# Altium footprint library ERN.PcbLib: 34 footprints (part 2 of 3)
Each footprint in its own frame and in the unit in brackets; x right, y up, seen from the top. Pads: shape width x height; smd on the part's side, far side on the other; paste and mask are expansions set on the pad; w line width, h text height; cw(c..) or ccw(c..) is an arc to the next point about the centre after c.
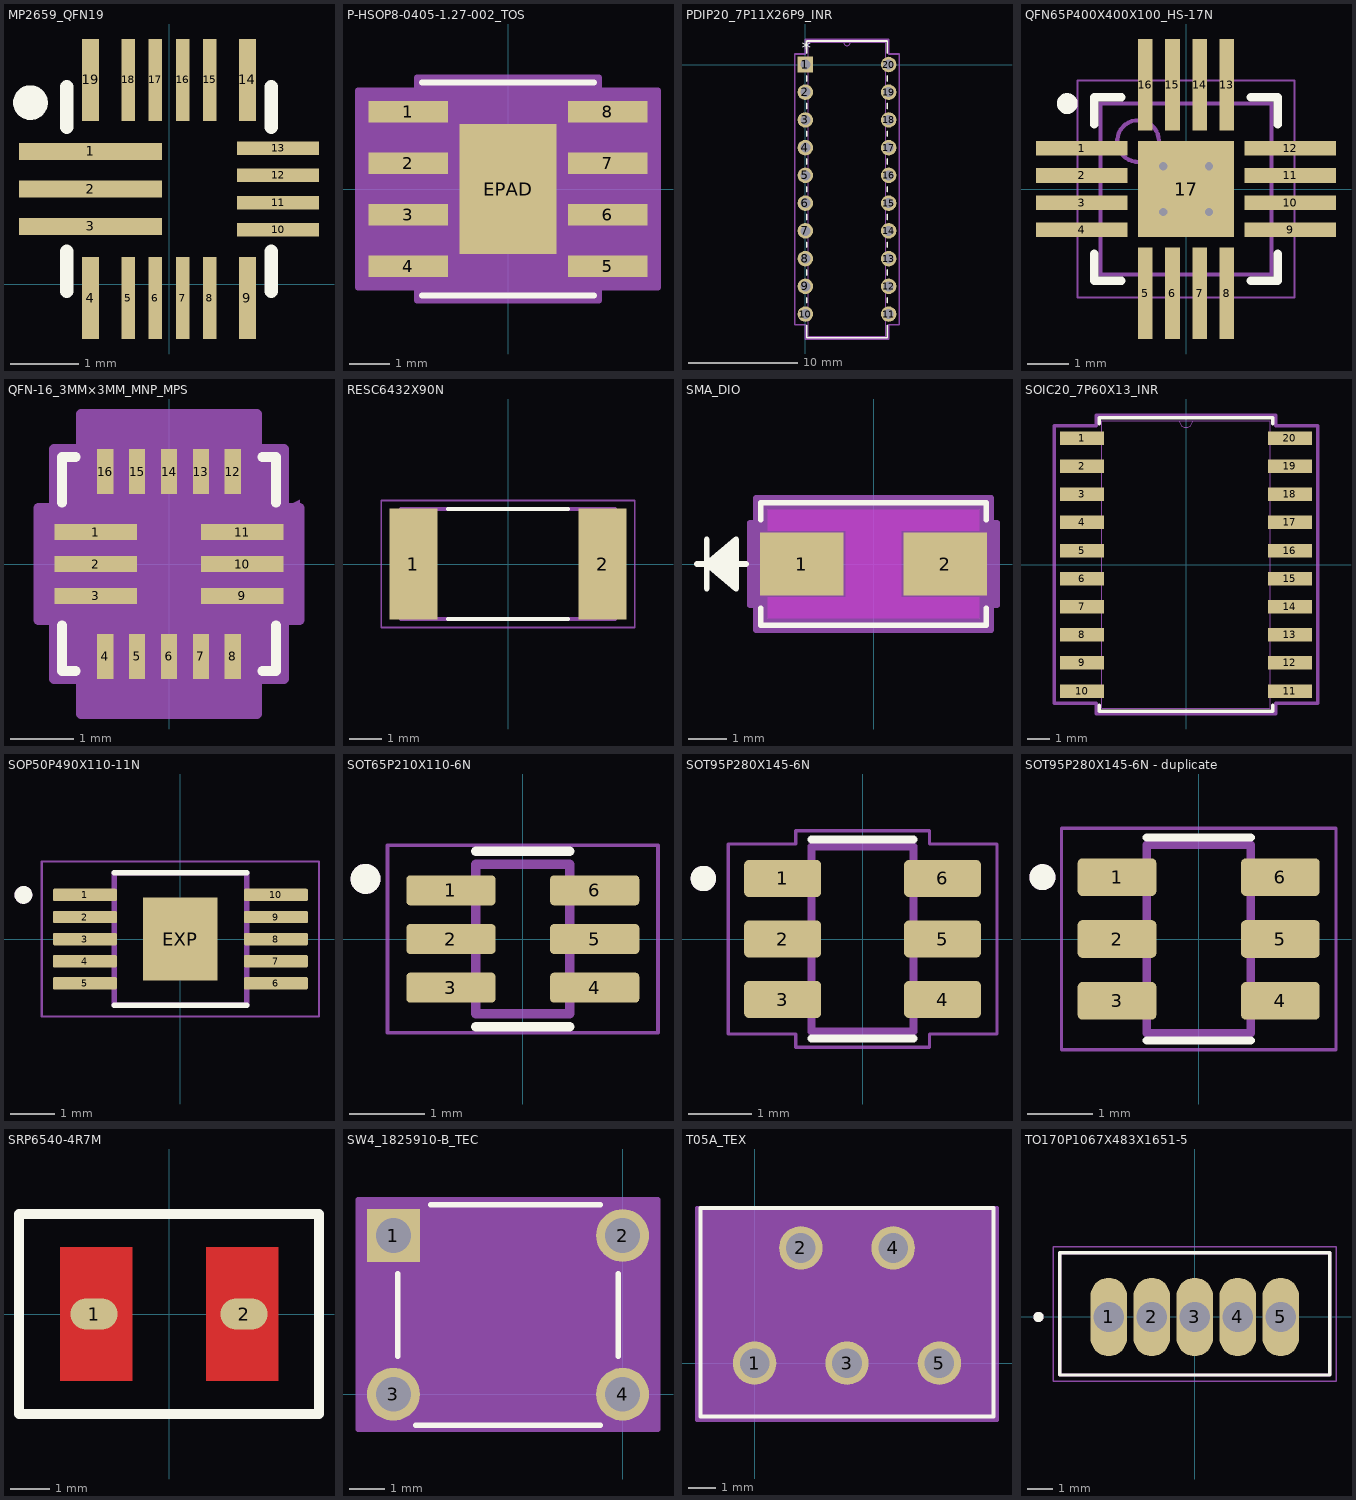
[diagram p1: the footprints below, top view; thin cyan lines are the x and y axes]

## MP2659_QFN19 [mm] "QFN-19 Package for MP2659"
pads (19):
  rect 2.1x0.25 smd mask+0.05: 1(-1.15,1.95) 2(-1.15,1.4) 3(-1.15,0.85)
  rect 0.25x1.2 smd mask+0.05: 4(-1.15,-0.2) 9(1.15,-0.2) 14(1.15,3) 19(-1.15,3)
  rect 0.2x1.2 smd mask+0.05: 5(-0.6,-0.2) 6(-0.2,-0.2) 7(0.2,-0.2) 8(0.6,-0.2) 15(0.6,3) 16(0.2,3) 17(-0.2,3) 18(-0.6,3)
  rect 1.2x0.2 smd mask+0.05: 10(1.6,0.8) 11(1.6,1.2) 12(1.6,1.6) 13(1.6,2)
Top Overlay:
  circle w0.254: c-2.032,2.667 r0.127
  lines w0.2: -1.5,-0.1 -1.5,0.484 ; -1.5,2.31 -1.5,2.9 ; 1.5,-0.1 1.5,0.484 ; 1.5,2.31 1.5,2.9

## P-HSOP8-0405-1.27-002_TOS [mil]
pads (9):
  rect 77.56x20.97 smd paste+0 mask+0: 1(-97,75) 2(-97,25) 3(-97,-25) 4(-97,-75) 5(97,-75) 6(97,-25) 7(97,25) 8(97,75)
  rect 94x126 smd paste-62.5 mask+0: EPAD(0,0)
Top Overlay:
  lines w6: -83.5,-103.5 83.5,-103.5 ; -83.5,103.5 83.5,103.5
Top Paste:
  region: 43.06,59.06 -43.06,59.06 -43.06,3.94 43.06,3.94
  region: 43.06,-3.94 -43.06,-3.94 -43.06,-59.06 43.06,-59.06
Mechanical 13:
  lines w0: -12,98.5 ccw(c0,98.5) 12,98.5
  lines w1: -122,-84.5 -122,-65.5 -78.5,-65.5 -78.5,-84.5 -122,-84.5 ; -122,-34.5 -122,-15.5 -78.5,-15.5 -78.5,-34.5 -122,-34.5 ; -122,15.5 -122,34.5 -78.5,34.5 -78.5,15.5 -122,15.5 ; -122,65.5 -122,84.5 -78.5,84.5 -78.5,65.5 -122,65.5 ; -78.5,-98.5 78.5,-98.5 78.5,98.5 -78.5,98.5 -78.5,-98.5 ; 78.5,-84.5 78.5,-65.5 122,-65.5 122,-84.5 78.5,-84.5 ; 78.5,-34.5 78.5,-15.5 122,-15.5 122,-34.5 78.5,-34.5 ; 78.5,15.5 78.5,34.5 122,34.5 122,15.5 78.5,15.5 ; 78.5,65.5 78.5,84.5 122,84.5 122,65.5 78.5,65.5
  text "*" at -76,45.5 h50
Mechanical 15:
  region: -88.5,-95.48 -145.78,-95.48 -145.78,95.48 -88.5,95.48 -88.5,108.5 88.5,108.5 88.5,95.48 145.78,95.48 145.78,-95.48 88.5,-95.48 88.5,-108.5 -88.5,-108.5
  lines w6: -145.78,-95.48 -145.78,95.48 -88.5,95.48 -88.5,108.5 88.5,108.5 88.5,95.48 145.78,95.48 145.78,-95.48 88.5,-95.48 88.5,-108.5 -88.5,-108.5 -88.5,-95.48 -145.78,-95.48
3D body "P-HSOP8-0405-127-002_TOS.step": height 67.09, standoff 0, extent -122.01,-98.5 122.01,98.5

## PDIP20_7P11X26P9_INR [mil]
pads (20):
  rect 56x56 hole 36 paste-99999 mask+0: 1(0,0)
  round 56 hole 36 paste-99999 mask+0: 2(0,-100) 3(0,-200) 4(0,-300) 5(0,-400) 6(0,-500) 7(0,-600) 8(0,-700) 9(0,-800) 10(0,-900) 11(300,-900) 12(300,-800) 13(300,-700) 14(300,-600) 15(300,-500) 16(300,-400) 17(300,-300) 18(300,-200) 19(300,-100) 20(300,0)
Top Overlay:
  lines w6: 5,-940.79 5,-985 295,-985 295,-940.79 ; 5,-859.21 5,-840.79 ; 5,-759.21 5,-740.79 ; 5,-659.21 5,-640.79 ; 5,-559.21 5,-540.79 ; 5,-459.21 5,-440.79 ; 5,-359.21 5,-340.79 ; 5,-259.21 5,-240.79 ; 5,-159.21 5,-140.79 ; 5,-59.21 5,-41.1 ; 5,41.1 5,85 295,85 295,40.79 ; 295,-859.21 295,-840.79 ; 295,-759.21 295,-740.79 ; 295,-659.21 295,-640.79 ; 295,-559.21 295,-540.79 ; 295,-459.21 295,-440.79 ; 295,-359.21 295,-340.79 ; 295,-259.21 295,-240.79 ; 295,-159.21 295,-140.79 ; 295,-59.21 295,-40.79
  text "*" at -12.5,33 h50
  text ".Designator" at 12.5,-475 h50
Mechanical 13:
  lines w1: 138,80 ccw(c150,80) 162,80 ; -18,-918 -18,-882 10,-882 10,-918 -18,-918 ; -18,-818 -18,-782 10,-782 10,-818 -18,-818 ; -18,-718 -18,-682 10,-682 10,-718 -18,-718 ; -18,-618 -18,-582 10,-582 10,-618 -18,-618 ; -18,-518 -18,-482 10,-482 10,-518 -18,-518 ; -18,-418 -18,-382 10,-382 10,-418 -18,-418 ; -18,-318 -18,-282 10,-282 10,-318 -18,-318 ; -18,-218 -18,-182 10,-182 10,-218 -18,-218 ; -18,-118 -18,-82 10,-82 10,-118 -18,-118 ; -18,-18 -18,18 10,18 10,-18 -18,-18 ; 10,-980 290,-980 290,80 10,80 10,-980 ; 290,-918 290,-882 318,-882 318,-918 290,-918 ; 290,-818 290,-782 318,-782 318,-818 290,-818 ; 290,-718 290,-682 318,-682 318,-718 290,-718 ; 290,-618 290,-582 318,-582 318,-618 290,-618 ; 290,-518 290,-482 318,-482 318,-518 290,-518 ; 290,-418 290,-382 318,-382 318,-418 290,-418 ; 290,-318 290,-282 318,-282 318,-318 290,-318 ; 290,-218 290,-182 318,-182 318,-218 290,-218 ; 290,-118 290,-82 318,-82 318,-118 290,-118 ; 290,-18 290,18 318,18 318,-18 290,-18
  text ".Designator" at 12.5,-475 h50
  text "*" at 7.5,-25 h50
Mechanical 15:
  lines w6: -38,-938 -38,38 0,38 0,90 300,90 300,38 338,38 338,-938 300,-938 300,-990 0,-990 0,-938 -38,-938
3D body "PDIP20_7P11X26P9_INR.step": height 217.09, standoff -100, extent -7.01,-980 320.98,80

## QFN65P400X400X100_HS-17N [mm] "QFN, 16-Leads, Body 4.00x4.00mm, Pitch 0.65mm, Thermal Pad 2.30x2.30mm, IPC Medium Density"
height 1
pads (17):
  rect 2.2x0.35 smd: 1(-2.5,0.975) 2(-2.5,0.325) 3(-2.5,-0.325) 4(-2.5,-0.975) 9(2.5,-0.975) 10(2.5,-0.325) 11(2.5,0.325) 12(2.5,0.975)
  rect 0.35x2.2 smd: 5(-0.975,-2.5) 6(-0.325,-2.5) 7(0.325,-2.5) 8(0.975,-2.5) 13(0.975,2.5) 14(0.325,2.5) 15(-0.325,2.5) 16(-0.975,2.5)
  rect 2.3x2.3 smd: 17(0,0)
via -0.55,0.55 diameter 0.5 hole 0.2
via 0.55,0.55 diameter 0.5 hole 0.2
via -0.55,-0.55 diameter 0.5 hole 0.2
via 0.55,-0.55 diameter 0.5 hole 0.2
Top Overlay:
  circle w0.25: c-2.85,2.05 r0.125
  lines w0.2: -2.2,-1.55 -2.2,-2.2 -1.55,-2.2 ; -2.2,1.55 -2.2,2.2 -1.55,2.2 ; 1.55,-2.2 2.2,-2.2 2.2,-1.55 ; 1.55,2.2 2.2,2.2 2.2,1.55
Mechanical 13:
  circle w0.1: c-1.15,1.15 r0.5
  lines w0.1: -2.05,-2.05 -2.05,2.05 2.05,2.05 2.05,-2.05 -2.05,-2.05
Mechanical 15:
  lines w0.05: -2.6,-2.6 -2.6,2.6 2.6,2.6 2.6,-2.6 -2.6,-2.6
  lines w0.1: -0.5,0 0.5,0 ; 0,-0.5 0,0.5
3D body "QFN65P400X400X100_HS-17N.step": height 1, standoff 0, extent -2.051,-2.051 2.051,2.051

## QFN-16_3MM×3MM_MNP_MPS [mil]
pads (16):
  rect 51x10 smd paste+0 mask+0: 1(-45.28,19.69) 2(-45.28,0) 3(-45.28,-19.69) 9(45.28,-19.69) 10(45.28,0) 11(45.28,19.69)
  rect 10x28 smd paste+0 mask+0: 4(-39.38,-57.09) 5(-19.69,-57.09) 6(0,-57.09) 7(19.69,-57.09) 8(39.38,-57.09) 12(39.38,57.09) 13(19.69,57.09) 14(0,57.09) 15(-19.69,57.09) 16(-39.38,57.09)
Top Overlay:
  lines w6: -66,-37.79 -66,-66 -57.48,-66 ; -66,37.79 -66,66 -57.48,66 ; 57.48,-66 66,-66 66,-37.79 ; 57.48,66 66,66 66,37.79
Mechanical 13:
  lines w1: -61,11 -11,61 ; -61,-61 -61,61 61,61 61,-61 -61,-61
  text "*" at -7.28,-5.31 h50
Mechanical 15:
  region: -54.38,-71 -71,-71 -71,-34.69 -80.78,-34.69 -80.78,34.69 -71,34.69 -71,71 -54.38,71 -54.38,92.59 54.38,92.59 54.38,71 71,71 71,34.69 80.78,39.69 80.78,-34.69 71,-34.69 71,-71 54.38,-71 54.38,-92.59 -54.38,-92.59
  lines w6: -80.78,-34.69 -80.78,34.69 -71,34.69 -71,71 -54.38,71 -54.38,92.59 54.38,92.59 54.38,71 71,71 71,34.69 80.78,34.69 80.78,-34.69 71,-34.69 71,-71 54.38,-71 54.38,-92.59 -54.38,-92.59 -54.38,-71 -71,-71 -71,-34.69 -80.78,-34.69
3D body "QFN-16_3MM×3MM_MNP_MPS.step": height 37.09, standoff 0, extent -60.98,-60.98 60.98,60.98

## RESC6432X90N [mm]
pads (2):
  rect 1.49x3.42 smd paste+0 mask+0.102: 1(-2.914,0) 2(2.914,0)
Top Overlay:
  lines w0.127: -1.85,-1.7 1.85,-1.7 ; -1.85,1.7 1.85,1.7
Mechanical 13:
  lines w0.127: -3.3,-1.7 3.3,-1.7 3.3,1.7 -3.3,1.7 -3.3,-1.7
Mechanical 15:
  lines w0.05: -3.908,-1.958 3.908,-1.958 3.908,1.958 -3.908,1.958 -3.908,-1.958
3D body "step_temp.STEP": height 0.9, standoff 0, extent -3.2,-1.6 3.2,1.6

## SMA_DIO [mm]
pads (2):
  rect 2.17x1.63 smd paste+0 mask+0: 1(-1.86,0) 2(1.86,0)
Top Layer keep-out:
  region: -0.724,-0.866 -0.724,0.866 0.724,0.866 0.724,-0.866
  region: -2.744,0.866 -2.744,1.409 2.744,1.409 2.744,0.866
  region: -2.744,-1.409 -2.744,-0.866 2.744,-0.866 2.744,-1.409
Top Overlay:
  lines w0.152: -4.573,0 -3.303,0 ; -4.319,-0.635 -4.319,0.635 ; -3.557,-0.508 -4.319,0 ; -3.557,-0.381 -4.319,0 ; -3.557,-0.254 -4.319,0 ; -3.557,-0.127 -4.319,0 ; -3.557,0.127 -4.319,0 ; -3.557,0.254 -4.319,0 ; -3.557,0.381 -4.319,0 ; -3.557,0.508 -4.319,0 ; -2.922,-1.148 -2.922,-1.587 2.922,-1.587 2.922,-1.148 ; -2.922,1.148 -2.922,1.587 2.922,1.587 2.922,1.148 ; -4.319,0 -3.557,0.635 -3.557,-0.635 -4.319,0
  text ".Designator" at -3.492,-0.635 h1.27
Keep-Out Layer:
  region: -0.724,-0.866 -0.724,0.866 0.724,0.866 0.724,-0.866
Mechanical 13:
  lines w0.025: -4.573,0 -3.303,0 ; -4.319,-0.635 -4.319,0.635 ; -3.557,-0.508 -4.319,0 ; -3.557,-0.381 -4.319,0 ; -3.557,-0.254 -4.319,0 ; -3.557,-0.127 -4.319,0 ; -3.557,0.127 -4.319,0 ; -3.557,0.254 -4.319,0 ; -3.557,0.381 -4.319,0 ; -3.557,0.508 -4.319,0 ; -4.319,0 -3.557,0.635 -3.557,-0.635 -4.319,0 ; -2.795,-1.46 2.795,-1.46 2.795,1.46 -2.795,1.46 -2.795,-1.46
  text ".Designator" at -3.492,-0.635 h1.27
Mechanical 15:
  region: -3.049,-1.069 -3.199,-1.069 -3.199,1.069 -3.049,1.069 -3.049,1.714 3.049,1.714 3.049,1.069 3.199,1.069 3.199,-1.069 3.049,-1.069 3.049,-1.714 -3.049,-1.714
  lines w0.152: -3.199,-1.069 -3.199,1.069 -3.049,1.069 -3.049,1.714 3.049,1.714 3.049,1.069 3.199,1.069 3.199,-1.069 3.049,-1.069 3.049,-1.714 -3.049,-1.714 -3.049,-1.069 -3.199,-1.069
3D body "SMA_DIO.step": height 2.35, standoff 0, extent -2.795,-1.46 2.795,1.46

## SOIC20_7P60X13_INR [mil]
pads (20):
  rect 79x24 smd paste+0 mask+0: 1(-185.04,225) 2(-185.04,175) 3(-185.04,125) 4(-185.04,75) 5(-185.04,25) 6(-185.04,-25) 7(-185.04,-75) 8(-185.04,-125) 9(-185.04,-175) 10(-185.04,-225) 11(185.04,-225) 12(185.04,-175) 13(185.04,-125) 14(185.04,-75) 15(185.04,-25) 16(185.04,25) 17(185.04,75) 18(185.04,125) 19(185.04,175) 20(185.04,225)
Top Overlay:
  lines w6: -154.61,-250.1 -154.61,-260.91 154.61,-260.91 154.61,-250.1 ; -154.61,250.1 -154.61,260.91 154.61,260.91 154.61,250.1
Mechanical 13:
  lines w1: -12,255.91 ccw(c0,255.91) 12,255.91 ; -149.61,-255.91 149.61,-255.91 149.61,255.91 -149.61,255.91 -149.61,-255.91
Mechanical 15:
  lines w6: -234.54,-247 -234.54,247 -159.61,247 -159.61,265.91 159.61,265.91 159.61,247 234.54,247 234.54,-247 159.61,-247 159.61,-265.91 -159.61,-265.91 -159.61,-247 -234.54,-247
3D body "SOIC20_7P60X13_INR.step": height 104.33, standoff 0, extent -210.75,-255.91 210.75,255.91

## SOP50P490X110-11N [mm]
height 1.1
pads (11):
  rrect25% 1.45x0.28 smd paste+0 mask+0.102: 1(-2.16,1) 2(-2.16,0.5) 3(-2.16,0) 4(-2.16,-0.5) 5(-2.16,-1) 6(2.16,-1) 7(2.16,-0.5) 8(2.16,0) 9(2.16,0.5) 10(2.16,1)
  rect 1.68x1.88 smd paste-2 mask+0.102: EXP(0,0)
Top Overlay:
  circle w0.2: c-3.55,1 r0.1
  lines w0.127: -1.5,-1.497 1.5,-1.497 ; -1.5,1.503 1.5,1.503
Top Paste:
  region: 0.62,0.11 0.11,0.11 0.11,0.72 0.62,0.72
  region: -0.11,-0.72 -0.62,-0.72 -0.62,-0.11 -0.11,-0.11
  region: -0.11,0.11 -0.62,0.11 -0.62,0.72 -0.11,0.72
  region: 0.62,-0.72 0.11,-0.72 0.11,-0.11 0.62,-0.11
Mechanical 13:
  circle w0.2: c-3.55,1 r0.1
  lines w0.127: -1.5,-1.497 1.5,-1.497 1.5,1.503 -1.5,1.503 -1.5,-1.497
Mechanical 15:
  lines w0.05: -3.135,-1.747 3.135,-1.747 3.135,1.753 -3.135,1.753 -3.135,-1.747
3D body "step_temp.STEP": height 1.1, standoff 0, extent -2.45,-1.5 2.45,1.5

## SOT65P210X110-6N [mm]
pads (6):
  rrect25% 1.19x0.4 smd: 1(-0.96,0.65) 2(-0.96,0) 3(-0.96,-0.65) 4(0.96,-0.65) 5(0.96,0) 6(0.96,0.65)
Top Overlay:
  circle w0.2: c-2.1,0.802 r0.1
  lines w0.127: -0.625,-1.17 0.625,-1.17 ; -0.625,1.17 0.625,1.17
Mechanical 13:
  circle w0.2: c-2.1,0.802 r0.1
  lines w0.127: -0.625,-1 0.625,-1 0.625,1 -0.625,1 -0.625,-1
Mechanical 15:
  lines w0.05: -1.805,-1.25 1.805,-1.25 1.805,1.25 -1.805,1.25 -1.805,-1.25
3D body "step_temp.STEP": height 1.1, standoff 0, extent -1.05,-1 1.05,1

## SOT95P280X145-6N [mm]
height 1.45
pads (6):
  rrect25% 1.21x0.58 smd: 1(-1.255,0.95) 2(-1.255,0) 3(-1.255,-0.95) 4(1.255,-0.95) 5(1.255,0) 6(1.255,0.95)
Top Overlay:
  circle w0.2: c-2.5,0.95 r0.1
  lines w0.127: -0.8,-1.56 0.8,-1.56 ; -0.8,1.56 0.8,1.56
Mechanical 13:
  circle w0.2: c-2.5,0.95 r0.1
  lines w0.127: -0.8,-1.45 -0.8,1.45 0.8,1.45 0.8,-1.45 -0.8,-1.45
Mechanical 15:
  lines w0.05: -2.11,-1.49 -2.11,1.49 -1.05,1.49 -1.05,1.7 1.05,1.7 1.05,1.49 2.11,1.49 2.11,-1.49 1.05,-1.49 1.05,-1.7 -1.05,-1.7 -1.05,-1.49 -2.11,-1.49
3D body "step_temp.STEP": height 1.45, standoff 0, extent -1.4,-1.45 1.4,1.45

## SOT95P280X145-6N - duplicate [mm]
height 1.45
pads (6):
  rrect25% 1.21x0.58 smd: 1(-1.255,0.95) 2(-1.255,0) 3(-1.255,-0.95) 4(1.255,-0.95) 5(1.255,0) 6(1.255,0.95)
Top Overlay:
  circle w0.2: c-2.4,0.95 r0.1
  lines w0.127: -0.8,-1.56 0.8,-1.56 ; -0.8,1.56 0.8,1.56
Mechanical 13:
  circle w0.2: c-2.4,0.95 r0.1
  lines w0.127: -0.8,-1.45 0.8,-1.45 0.8,1.45 -0.8,1.45 -0.8,-1.45
Mechanical 15:
  lines w0.05: -2.11,-1.7 2.11,-1.7 2.11,1.7 -2.11,1.7 -2.11,-1.7
3D body "step_temp.STEP": height 1.45, standoff 0, extent -1.4,-1.45 1.4,1.45

## SRP6540-4R7M [mm] "4.7 µH Shielded Drum Core, Wirewound Inductor 6 A 33.5mOhm Max Nonstandard"
pads (2):
  oval 1.2x0.8 smd mask+0: 1(-1.905,0) 2(1.905,0)
Top Layer:
  rectangle: -2.775,-1.702 -0.933,1.702
  rectangle: 0.933,-1.702 2.775,1.702
Top Overlay:
  lines w0.254: -3.81,-2.54 3.81,-2.54 3.81,2.54 -3.81,2.54 -3.81,-2.54

## SW4_1825910-B_TEC [mil]
pads (4):
  rect 59x59 hole 39 paste-99999 mask+0: 1(-255.91,177.17)
  round 59 hole 39 paste-99999 mask-29.5: 2(0,177.17) 3(-255.91,0) 4(0,0)
Top Overlay:
  lines w6: -250.95,42.31 -250.95,134.57 ; -230.8,-34.42 -25.1,-34.42 ; -214.26,211.58 -25.1,211.58 ; -4.95,42.31 -4.95,134.85
Mechanical 13:
  lines w1: -139.95,206.58 ccw(c-127.95,206.58) -115.95,206.58 ; -275.41,-19.5 -245.95,-19.5 -245.95,19.5 -275.41,19.5 -275.41,-19.5 ; -275.41,157.67 -245.95,157.67 -245.95,196.67 -275.41,196.67 -275.41,157.67 ; -245.95,-29.42 -245.95,206.58 -9.95,206.58 -9.95,-29.42 -245.95,-29.42 ; -9.95,-19.5 19.5,-19.5 19.5,19.5 -9.95,19.5 -9.95,-19.5 ; -9.95,157.67 19.5,157.67 19.5,196.67 -9.95,196.67 -9.95,157.67
  text "*" at -222.5,155 h50
Mechanical 15:
  region: 0,-39 39.5,-39 39.5,217 0,217 0,216.58 -255.95,216.58 -255.91,217 -295.41,217 -295.41,-39 -255.91,-39 -255.95,-39.42 0,-39.42
  lines w6: -295.41,-39 39.5,-39 39.5,217 -295.41,217 -295.41,-39

## T05A_TEX [mil]
pads (5):
  round 63 hole 43 paste-99999: 1(0,0) 2(67,167) 3(134,0) 4(201,167) 5(268,0)
Top Overlay:
  lines w6: -78.5,-77.5 346.5,-77.5 346.5,225 174.75,225 135.25,225 -78.5,225 -78.5,-77.5
Mechanical 13:
  circle w1: c-53.5,0 r8
  lines w1: -73.5,-72.5 341.5,-72.5 341.5,112.5 -73.5,112.5 -73.5,-72.5
  lines w6: -10,0 10,0 ; 0,-10 0,10
Mechanical 15:
  region: 351.5,-82.5 -83.5,-82.5 -83.5,225 351.5,225
  lines w6: -83.5,-82.5 -83.5,225 351.5,225 351.5,-82.5 -83.5,-82.5
3D body "T05A_TEX.step": height 610, standoff -232.01, extent -73.5,-72.52 341.5,112.52

## TO170P1067X483X1651-5 [mm]
height 16.51
pads (5):
  oval 1.45x3.1 hole 1.2 mask+0.07: 1(-3.4,0) 2(-1.7,0) 3(0,0) 4(1.7,0) 5(3.4,0)
Top Overlay:
  circle w0.2: c-6.175,0 r0.1
  lines w0.127: -5.335,-2.29 -5.335,2.54 5.335,2.54 5.335,-2.29 -5.335,-2.29
Mechanical 13:
  circle w0.2: c-6.175,0 r0.1
  lines w0.127: -5.335,-2.29 -5.335,2.54 5.335,2.54 5.335,-2.29 -5.335,-2.29
Mechanical 15:
  lines w0.05: -5.585,-2.54 -5.585,2.775 5.585,2.775 5.585,-2.54 -5.585,-2.54
3D body "step_temp.STEP": height 16.84, standoff -14.73, extent -5.08,0 5.08,4.445